# EAGLE library part BR8_MC1_012 (library metaltex)
Borne para PCI Metaltex Cod:BR8 MC1 12 Metaltex BR8 M/F <https://www.metaltex.com.br/produtos/componentes/bornes-e-terminais/br8-borne-para-pci-passo-5-08mm> Datasheet <https://www.metaltex.com.br/assets/produtos/pdf/br.pdf>
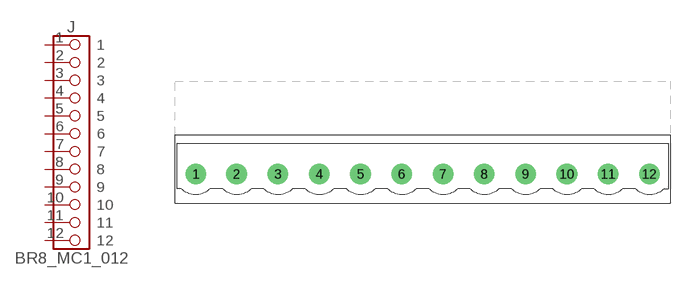
[diagram p1: symbol with the pads of BR8_MC1_012; footprint BR8_MC1_012]

Designator prefix J

## BR8_MC1_012  [BR8_MC1_012]
1  1  pas
2  2  pas
3  3  pas
4  4  pas
5  5  pas
6  6  pas
7  7  pas
8  8  pas
9  9  pas
10  10  pas
11  11  pas
12  12  pas

## Footprint BR8_MC1_012 (pad centres in mm)
BR40 2 V Datasheet <http://www.metaltex.com.br/downloads/BR.pdf>
drill 1.27 pad 2.54: 1 0.04,0; 2 5.04,0; 3 10.12,0; 4 15.2,0; 5 20.28,0; 6 25.36,0; 7 30.44,0; 8 35.52,0; 9 40.6,0; 10 45.68,0; 11 50.76,0; 12 55.84,0